# Altium schematic symbol library Heater PCB Column Coil.SCHLIB: 1 symbol
Pins are listed as number, name and electrical type; pins without a type are passive.

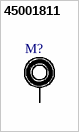
[diagram p0: symbol 45001811]

## 45001811
designator M?, comment PTH  (value not drawn)
Plated Through-Hole, M3.4, Round Pad 6mm; Manufacturer: mechanical; id: 45001811; Preferred: 0; Manufacturer P/N: mechanical; Component Type: Mechanical, Board Item
footprint PTH-M3.4-D6.0 (Footprint not found)
pins: 1